# EAGLE library part XC9572XL-VQ64 (library xilinx)
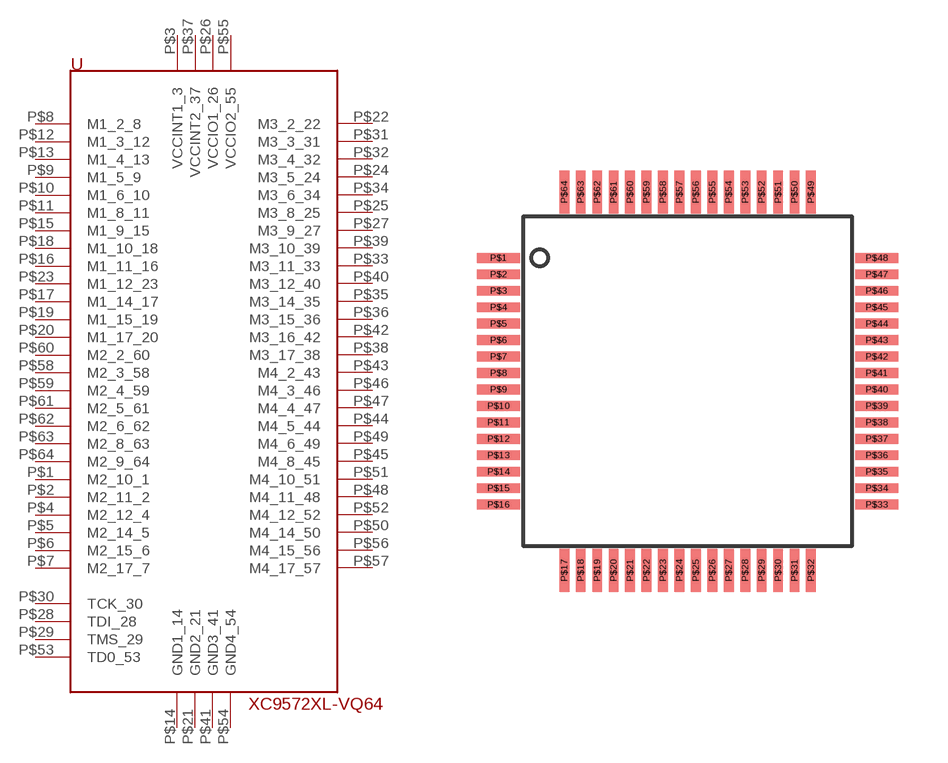
[diagram p1: symbol with the pads of VQ64; footprint VQ64]

Designator prefix -

## XC9572XL-VQ64  [VQ64]
P$1  M2_10_1
P$2  M2_11_2
P$3  VCCINT1_3  pwr
P$4  M2_12_4
P$5  M2_14_5
P$6  M2_15_6
P$7  M2_17_7
P$8  M1_2_8
P$9  M1_5_9
P$10  M1_6_10
P$11  M1_8_11
P$12  M1_3_12
P$13  M1_4_13
P$14  GND1_14  pwr
P$15  M1_9_15
P$16  M1_11_16
P$17  M1_14_17
P$18  M1_10_18
P$19  M1_15_19
P$20  M1_17_20
P$21  GND2_21  pwr
P$22  M3_2_22
P$23  M1_12_23
P$24  M3_5_24
P$25  M3_8_25
P$26  VCCIO1_26  pwr
P$27  M3_9_27
P$28  TDI_28
P$29  TMS_29
P$30  TCK_30
P$31  M3_3_31
P$32  M3_4_32
P$33  M3_11_33
P$34  M3_6_34
P$35  M3_14_35
P$36  M3_15_36
P$37  VCCINT2_37  pwr
P$38  M3_17_38
P$39  M3_10_39
P$40  M3_12_40
P$41  GND3_41  pwr
P$42  M3_16_42
P$43  M4_2_43
P$44  M4_5_44
P$45  M4_8_45
P$46  M4_3_46
P$47  M4_4_47
P$48  M4_11_48
P$49  M4_6_49
P$50  M4_14_50
P$51  M4_10_51
P$52  M4_12_52
P$53  TD0_53
P$54  GND4_54  pwr
P$55  VCCIO2_55  pwr
P$56  M4_15_56
P$57  M4_17_57
P$58  M2_3_58
P$59  M2_4_59
P$60  M2_2_60
P$61  M2_5_61
P$62  M2_6_62
P$63  M2_8_63
P$64  M2_9_64

## Footprint VQ64 (pad centres in mm)
smd 1.3 x 0.3: P$1 -5.75,3.75; P$2 -5.75,3.25; P$3 -5.75,2.75; P$4 -5.75,2.25; P$5 -5.75,1.75; P$6 -5.75,1.25; P$7 -5.75,0.75; P$8 -5.75,0.25; P$9 -5.75,-0.25; P$10 -5.75,-0.75; P$11 -5.75,-1.25; P$12 -5.75,-1.75; P$13 -5.75,-2.25; P$14 -5.75,-2.75; P$15 -5.75,-3.25; P$16 -5.75,-3.75; P$33 5.75,-3.75; P$34 5.75,-3.25; P$35 5.75,-2.75; P$36 5.75,-2.25; P$37 5.75,-1.75; P$38 5.75,-1.25; P$39 5.75,-0.75; P$40 5.75,-0.25; P$41 5.75,0.25; P$42 5.75,0.75; P$43 5.75,1.25; P$44 5.75,1.75; P$45 5.75,2.25; P$46 5.75,2.75; P$47 5.75,3.25; P$48 5.75,3.75
smd 0.3 x 1.3: P$17 -3.75,-5.75; P$18 -3.25,-5.75; P$19 -2.75,-5.75; P$20 -2.25,-5.75; P$21 -1.75,-5.75; P$22 -1.25,-5.75; P$23 -0.75,-5.75; P$24 -0.25,-5.75; P$25 0.25,-5.75; P$26 0.75,-5.75; P$27 1.25,-5.75; P$28 1.75,-5.75; P$29 2.25,-5.75; P$30 2.75,-5.75; P$31 3.25,-5.75; P$32 3.75,-5.75; P$49 3.75,5.75; P$50 3.25,5.75; P$51 2.75,5.75; P$52 2.25,5.75; P$53 1.75,5.75; P$54 1.25,5.75; P$55 0.75,5.75; P$56 0.25,5.75; P$57 -0.25,5.75; P$58 -0.75,5.75; P$59 -1.25,5.75; P$60 -1.75,5.75; P$61 -2.25,5.75; P$62 -2.75,5.75; P$63 -3.25,5.75; P$64 -3.75,5.75